# EAGLE library part KDFI_V1.4_MODULE (library kdFi V1.4 Modul)
KDFI V1.4 Module Aufsteckbar
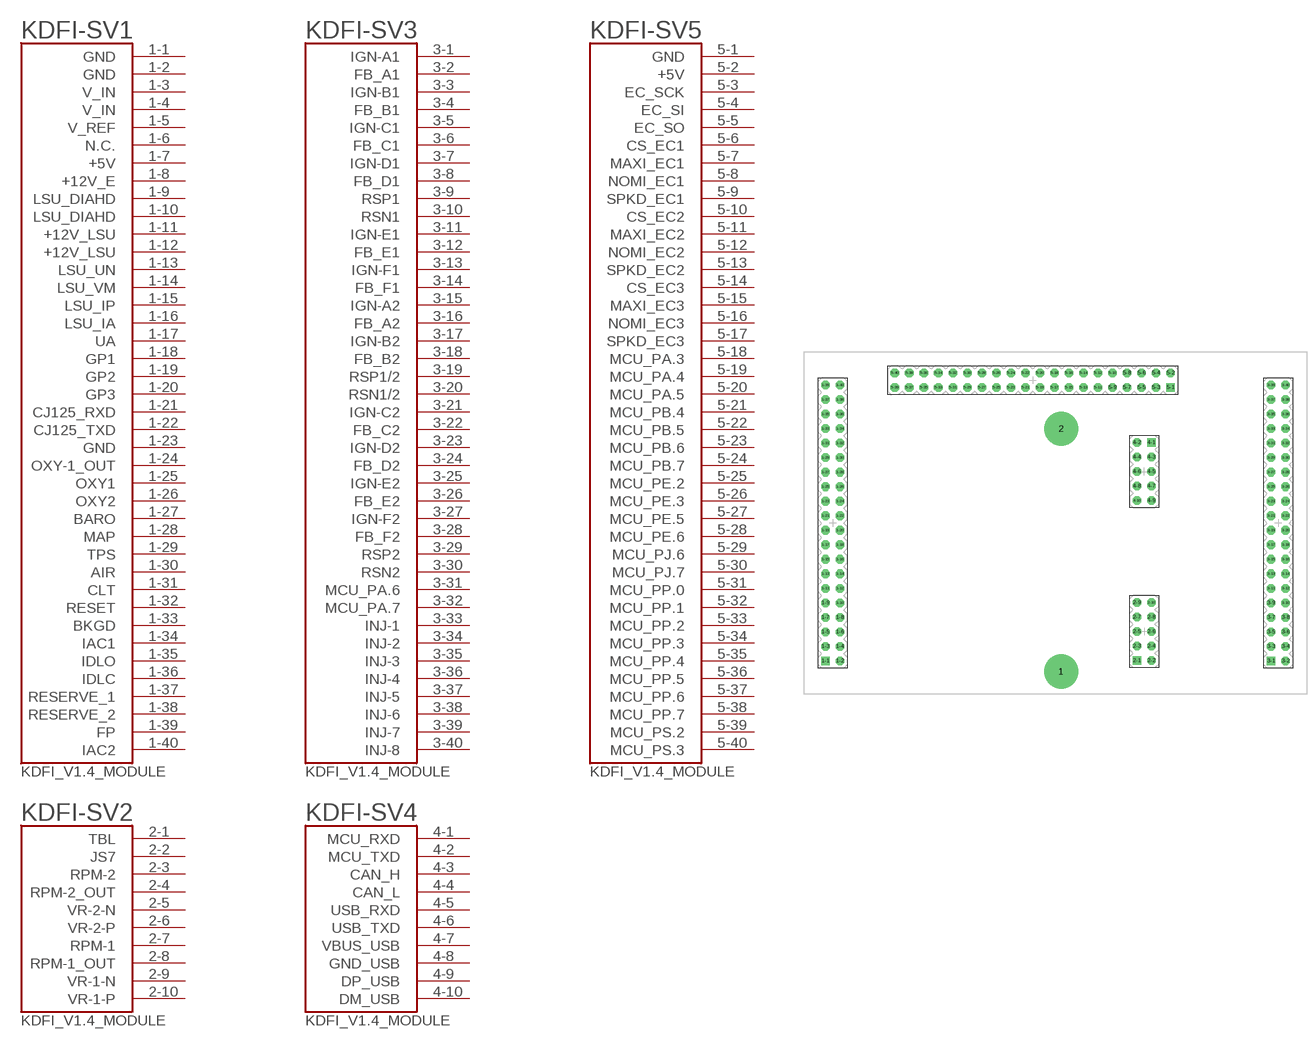
[diagram p0: symbol with the pads of KDFI_V1.4_MODULE; footprint KDFI_V1.4_MODULE]

Designator prefix KDFI; gates -SV1=KDFI_V1.4_SV1 -SV2=KDFI_V1.4_SV2 -SV3=KDFI_V1.4_SV3 -SV4=KDFI_V1.4_SV4 -SV5=KDFI_V1.4_SV5

## KDFI_V1.4_MODULE  [KDFI_V1.4_MODULE]
1-1  -SV1:GND
1-2  -SV1:GND
1-3  -SV1:V_IN
1-4  -SV1:V_IN
1-5  -SV1:V_REF
1-6  -SV1:N.C.
1-7  -SV1:+5V
1-8  -SV1:+12V_E
1-9  -SV1:LSU_DIAHD
1-10  -SV1:LSU_DIAHD
1-11  -SV1:+12V_LSU
1-12  -SV1:+12V_LSU
1-13  -SV1:LSU_UN
1-14  -SV1:LSU_VM
1-15  -SV1:LSU_IP
1-16  -SV1:LSU_IA
1-17  -SV1:UA
1-18  -SV1:GP1
1-19  -SV1:GP2
1-20  -SV1:GP3
1-21  -SV1:CJ125_RXD
1-22  -SV1:CJ125_TXD
1-23  -SV1:GND
1-24  -SV1:OXY-1_OUT
1-25  -SV1:OXY1
1-26  -SV1:OXY2
1-27  -SV1:BARO
1-28  -SV1:MAP
1-29  -SV1:TPS
1-30  -SV1:AIR
1-31  -SV1:CLT
1-32  -SV1:RESET
1-33  -SV1:BKGD
1-34  -SV1:IAC1
1-35  -SV1:IDLO
1-36  -SV1:IDLC
1-37  -SV1:RESERVE_1
1-38  -SV1:RESERVE_2
1-39  -SV1:FP
1-40  -SV1:IAC2
2-1  -SV2:TBL
2-2  -SV2:JS7
2-3  -SV2:RPM-2
2-4  -SV2:RPM-2_OUT
2-5  -SV2:VR-2-N
2-6  -SV2:VR-2-P
2-7  -SV2:RPM-1
2-8  -SV2:RPM-1_OUT
2-9  -SV2:VR-1-N
2-10  -SV2:VR-1-P
3-1  -SV3:IGN-A1
3-2  -SV3:FB_A1
3-3  -SV3:IGN-B1
3-4  -SV3:FB_B1
3-5  -SV3:IGN-C1
3-6  -SV3:FB_C1
3-7  -SV3:IGN-D1
3-8  -SV3:FB_D1
3-9  -SV3:RSP1
3-10  -SV3:RSN1
3-11  -SV3:IGN-E1
3-12  -SV3:FB_E1
3-13  -SV3:IGN-F1
3-14  -SV3:FB_F1
3-15  -SV3:IGN-A2
3-16  -SV3:FB_A2
3-17  -SV3:IGN-B2
3-18  -SV3:FB_B2
3-19  -SV3:RSP1/2
3-20  -SV3:RSN1/2
3-21  -SV3:IGN-C2
3-22  -SV3:FB_C2
3-23  -SV3:IGN-D2
3-24  -SV3:FB_D2
3-25  -SV3:IGN-E2
3-26  -SV3:FB_E2
3-27  -SV3:IGN-F2
3-28  -SV3:FB_F2
3-29  -SV3:RSP2
3-30  -SV3:RSN2
3-31  -SV3:MCU_PA.6
3-32  -SV3:MCU_PA.7
3-33  -SV3:INJ-1
3-34  -SV3:INJ-2
3-35  -SV3:INJ-3
3-36  -SV3:INJ-4
3-37  -SV3:INJ-5
3-38  -SV3:INJ-6
3-39  -SV3:INJ-7
3-40  -SV3:INJ-8
4-1  -SV4:MCU_RXD
4-2  -SV4:MCU_TXD
4-3  -SV4:CAN_H
4-4  -SV4:CAN_L
4-5  -SV4:USB_RXD
4-6  -SV4:USB_TXD
4-7  -SV4:VBUS_USB
4-8  -SV4:GND_USB
4-9  -SV4:DP_USB
4-10  -SV4:DM_USB
5-1  -SV5:GND
5-2  -SV5:+5V
5-3  -SV5:EC_SCK
5-4  -SV5:EC_SI
5-5  -SV5:EC_SO
5-6  -SV5:CS_EC1
5-7  -SV5:MAXI_EC1
5-8  -SV5:NOMI_EC1
5-9  -SV5:SPKD_EC1
5-10  -SV5:CS_EC2
5-11  -SV5:MAXI_EC2
5-12  -SV5:NOMI_EC2
5-13  -SV5:SPKD_EC2
5-14  -SV5:CS_EC3
5-15  -SV5:MAXI_EC3
5-16  -SV5:NOMI_EC3
5-17  -SV5:SPKD_EC3
5-18  -SV5:MCU_PA.3
5-19  -SV5:MCU_PA.4
5-20  -SV5:MCU_PA.5
5-21  -SV5:MCU_PB.4
5-22  -SV5:MCU_PB.5
5-23  -SV5:MCU_PB.6
5-24  -SV5:MCU_PB.7
5-25  -SV5:MCU_PE.2
5-26  -SV5:MCU_PE.3
5-27  -SV5:MCU_PE.5
5-28  -SV5:MCU_PE.6
5-29  -SV5:MCU_PJ.6
5-30  -SV5:MCU_PJ.7
5-31  -SV5:MCU_PP.0
5-32  -SV5:MCU_PP.1
5-33  -SV5:MCU_PP.2
5-34  -SV5:MCU_PP.3
5-35  -SV5:MCU_PP.4
5-36  -SV5:MCU_PP.5
5-37  -SV5:MCU_PP.6
5-38  -SV5:MCU_PP.7
5-39  -SV5:MCU_PS.2
5-40  -SV5:MCU_PS.3

## Footprint KDFI_V1.4_MODULE (pad centres in mm)
KDFI V1.4 Module / 88 x 60 mm
drill 3.2 pad 6 round: 1 45,4; 2 45,46.5
drill 1 pad 1.5 square: 1-1 3.73,5.87; 2-1 58.23,5.92; 3-1 81.73,5.87; 4-1 60.77,44.08; 5-1 64.13,53.73
drill 1 pad 1.5 octagon: 1-2 6.27,5.87; 1-3 3.73,8.41; 1-4 6.27,8.41; 1-5 3.73,10.95; 1-6 6.27,10.95; 1-7 3.73,13.49; 1-8 6.27,13.49; 1-9 3.73,16.03; 1-10 6.27,16.03; 1-11 3.73,18.57; 1-12 6.27,18.57; 1-13 3.73,21.11; 1-14 6.27,21.11; 1-15 3.73,23.65; 1-16 6.27,23.65; 1-17 3.73,26.19; 1-18 6.27,26.19; 1-19 3.73,28.73; 1-20 6.27,28.73; 1-21 3.73,31.27; 1-22 6.27,31.27; 1-23 3.73,33.81; 1-24 6.27,33.81; 1-25 3.73,36.35; 1-26 6.27,36.35; 1-27 3.73,38.89; 1-28 6.27,38.89; 1-29 3.73,41.43; 1-30 6.27,41.43; 1-31 3.73,43.97; 1-32 6.27,43.97; 1-33 3.73,46.51; 1-34 6.27,46.51; 1-35 3.73,49.05; 1-36 6.27,49.05; 1-37 3.73,51.59; 1-38 6.27,51.59; 1-39 3.73,54.13; 1-40 6.27,54.13; 2-2 60.77,5.92; 2-3 58.23,8.46; 2-4 60.77,8.46; 2-5 58.23,11; 2-6 60.77,11; 2-7 58.23,13.54; 2-8 60.77,13.54; 2-9 58.23,16.08; 2-10 60.77,16.08; 3-2 84.27,5.87; 3-3 81.73,8.41; 3-4 84.27,8.41; 3-5 81.73,10.95; 3-6 84.27,10.95; 3-7 81.73,13.49; 3-8 84.27,13.49; 3-9 81.73,16.03; 3-10 84.27,16.03; 3-11 81.73,18.57; 3-12 84.27,18.57; 3-13 81.73,21.11; 3-14 84.27,21.11; 3-15 81.73,23.65; 3-16 84.27,23.65; 3-17 81.73,26.19; 3-18 84.27,26.19; 3-19 81.73,28.73; 3-20 84.27,28.73; 3-21 81.73,31.27; 3-22 84.27,31.27; 3-23 81.73,33.81; 3-24 84.27,33.81; 3-25 81.73,36.35; 3-26 84.27,36.35; 3-27 81.73,38.89; 3-28 84.27,38.89; 3-29 81.73,41.43; 3-30 84.27,41.43; 3-31 81.73,43.97; 3-32 84.27,43.97; 3-33 81.73,46.51; 3-34 84.27,46.51; 3-35 81.73,49.05; 3-36 84.27,49.05; 3-37 81.73,51.59; 3-38 84.27,51.59; 3-39 81.73,54.13; 3-40 84.27,54.13; 4-2 58.23,44.08; 4-3 60.77,41.54; 4-4 58.23,41.54; 4-5 60.77,39; 4-6 58.23,39; 4-7 60.77,36.46; 4-8 58.23,36.46; 4-9 60.77,33.92; 4-10 58.23,33.92; 5-2 64.13,56.27; 5-3 61.59,53.73; 5-4 61.59,56.27; 5-5 59.05,53.73; 5-6 59.05,56.27; 5-7 56.51,53.73; 5-8 56.51,56.27; 5-9 53.97,53.73; 5-10 53.97,56.27; 5-11 51.43,53.73; 5-12 51.43,56.27; 5-13 48.89,53.73; 5-14 48.89,56.27; 5-15 46.35,53.73; 5-16 46.35,56.27; 5-17 43.81,53.73; 5-18 43.81,56.27; 5-19 41.27,53.73; 5-20 41.27,56.27; 5-21 38.73,53.73; 5-22 38.73,56.27; 5-23 36.19,53.73; 5-24 36.19,56.27; 5-25 33.65,53.73; 5-26 33.65,56.27; 5-27 31.11,53.73; 5-28 31.11,56.27; 5-29 28.57,53.73; 5-30 28.57,56.27; 5-31 26.03,53.73; 5-32 26.03,56.27; 5-33 23.49,53.73; 5-34 23.49,56.27; 5-35 20.95,53.73; 5-36 20.95,56.27; 5-37 18.41,53.73; 5-38 18.41,56.27; 5-39 15.87,53.73; 5-40 15.87,56.27